# Altium footprint library Pinsockets.PcbLib: 12 footprints
Each footprint in its own frame and in the unit in brackets; x right, y up, seen from the top. Pads: shape width x height; smd on the part's side, far side on the other; paste and mask are expansions set on the pad; w line width, h text height; cw(c..) or ccw(c..) is an arc to the next point about the centre after c.
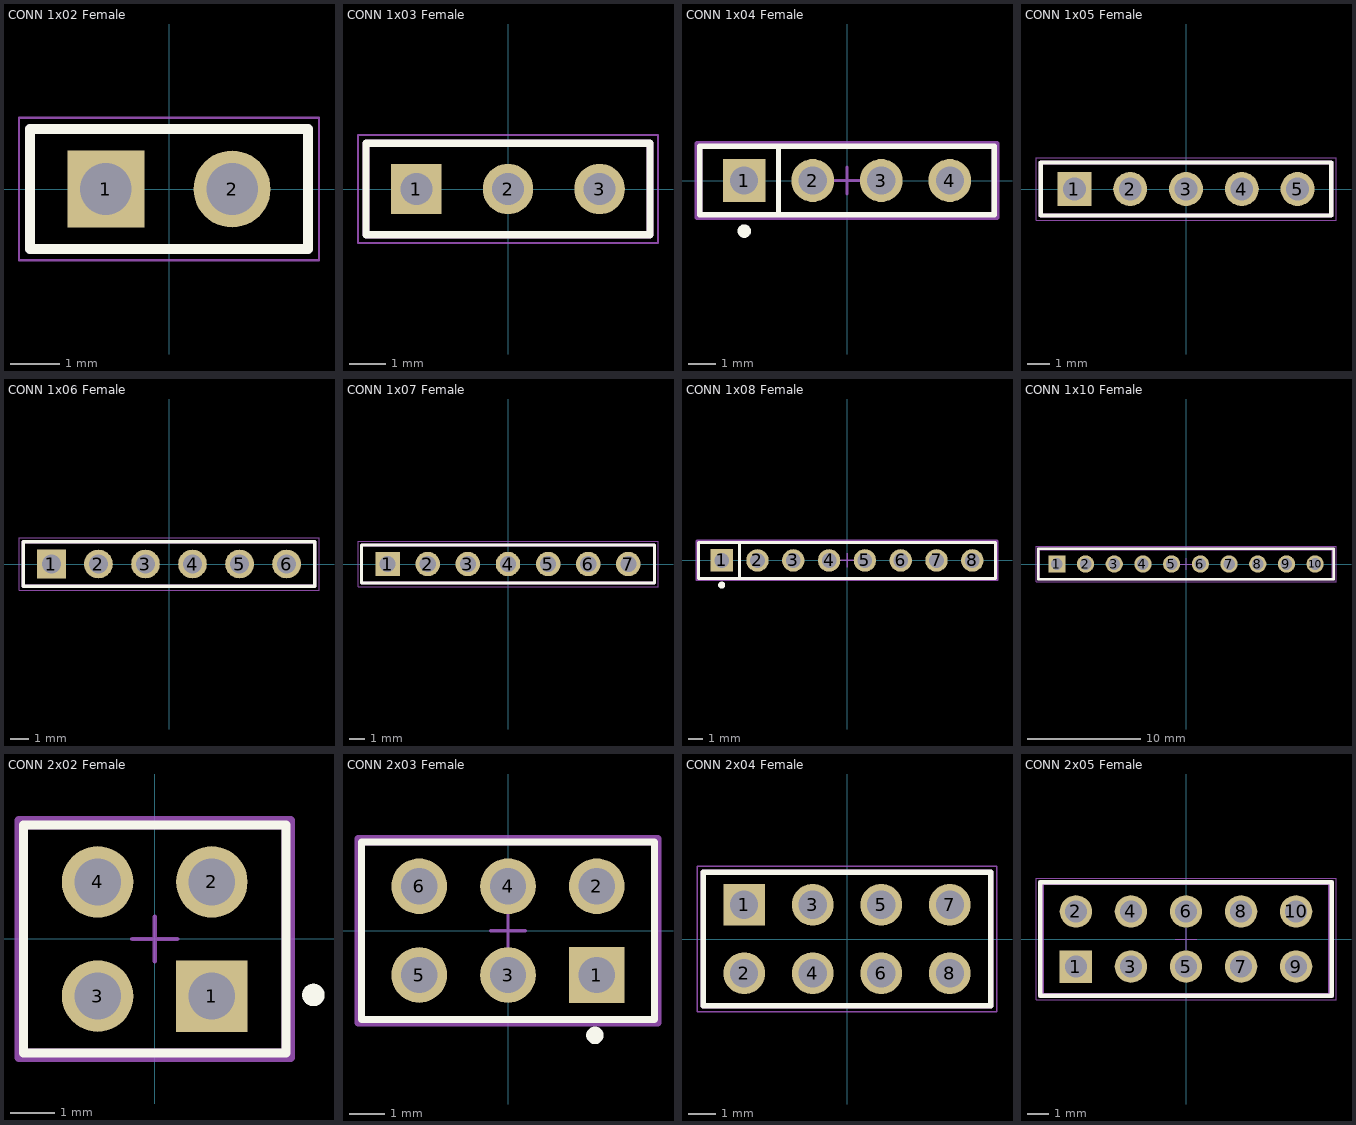
[diagram p0: the footprints below, top view; thin cyan lines are the x and y axes]

## CONN 1x02 Female [mm] "CONN RECEPTACLE FEMALE 2POS 2.54MM"
height 8.51
pads (2):
  rect 1.55x1.55 hole 1.04: 1(-1.27,0)
  round 1.55 hole 1.04: 2(1.27,0)
Top Overlay:
  lines w0.2: -2.795,-1.205 2.795,-1.205 2.795,1.205 -2.795,1.205 -2.795,-1.205
Top Assembly:
  lines w0.2: -2.795,-1.205 -2.795,1.205 2.795,1.205 2.795,-1.205 -2.795,-1.205
  text "'.Designator'" at -5.248,-0.825 h0.9
Top 3D Body:
  lines w0.1: -2.795,-1.205 2.795,-1.205 2.795,1.205 -2.795,1.205 -2.795,-1.205
Top Courtyard:
  lines w0.05: -3.02,-1.43 -3.02,1.43 3.02,1.43 3.02,-1.43 -3.02,-1.43
3D body "SSW-102-02-X-S.step": height 8.51, standoff -4.93, extent -2.794,-1.206 2.794,1.207

## CONN 1x03 Female [mm] "CONN RECEPTACLE FEMALE 3POS 2.54MM"
height 7.37
pads (3):
  rect 1.4x1.4 hole 0.89: 1(-2.54,0)
  round 1.4 hole 0.89: 2(0,0) 3(2.54,0)
Top Overlay:
  lines w0.2: -3.935,-1.27 3.935,-1.27 3.935,1.27 -3.935,1.27 -3.935,-1.27
Top Assembly:
  lines w0.2: -3.935,-1.27 3.935,-1.27 3.935,1.27 -3.935,1.27 -3.935,-1.27
  text "'.Designator'" at -5.248,-0.825 h0.9
Top 3D Body:
  lines w0.1: -3.935,-1.27 -3.935,1.27 3.935,1.27 3.935,-1.27 -3.935,-1.27
Top Courtyard:
  lines w0.05: -4.16,-1.495 -4.16,1.495 4.16,1.495 4.16,-1.495 -4.16,-1.495
3D body "BCS-103-X-S-TE.step": height 7.37, standoff -3.1, extent -3.81,-1.27 3.81,1.27

## CONN 1x04 Female [mm] "CONN RECEPTACLE FEMALE 4POS 2.54MM"
height 8.54
pads (4):
  rect 1.59x1.59 hole 1.04 paste-1000 mask+0: 1(-3.81,0)
  round 1.59 hole 1.04 paste-1000 mask+0: 2(-1.27,0) 3(1.27,0) 4(3.81,0)
Top Overlay:
  circle w0.25: c-3.81,-1.875 r0.125
  lines w0.2: -2.54,-1.27 -2.54,1.27 ; -5.46,-1.27 -5.46,1.27 5.46,1.27 5.46,-1.27 -5.46,-1.27
Top Assembly:
  lines w0.2: -5.56,-1.37 -5.56,1.37 5.56,1.37 5.56,-1.37 -5.56,-1.37
  text ".Designator" at -2.861,-0.287 h1.27
Top 3D Body:
  lines w0.2: -5.46,-1.27 -5.46,1.27 5.46,1.27 5.46,-1.27 -5.46,-1.27
Top Courtyard:
  lines w0.2: -5.56,-1.37 -5.56,1.37 5.56,1.37 5.56,-1.37 -5.56,-1.37
Bottom Courtyard:
  lines w0.1: -0.5,0 0.5,0 ; 0,-0.5 0,0.5
3D body "Conn_Samtec_SSW-104-01-G-S-003_eec.STEP": height 0.25, standoff 0, extent -5.56,-1.37 5.56,1.37

## CONN 1x05 Female [mm] "CONN RECEPTACLE FEMALE 5POS 2.54MM"
height 8.51
pads (5):
  rect 1.55x1.55 hole 1.04: 1(-5.08,0)
  round 1.55 hole 1.04: 2(-2.54,0) 3(0,0) 4(2.54,0) 5(5.08,0)
Top Overlay:
  lines w0.2: -6.605,-1.205 6.605,-1.205 6.605,1.205 -6.605,1.205 -6.605,-1.205
Top Assembly:
  lines w0.2: -6.605,-1.205 6.605,-1.205 6.605,1.205 -6.605,1.205 -6.605,-1.205
  text "'.Designator'" at -5.248,-0.825 h0.9
Top 3D Body:
  lines w0.1: -6.605,-1.205 6.605,-1.205 6.605,1.205 -6.605,1.205 -6.605,-1.205
Top Courtyard:
  lines w0.05: -6.83,-1.43 6.83,-1.43 6.83,1.43 -6.83,1.43 -6.83,-1.43
3D body "SSW-105-01-X-S.step": height 8.51, standoff -2.64, extent -6.604,-1.206 6.604,1.207

## CONN 1x06 Female [mm] "CONN RECEPTACLE FEMALE 6POS 2.54MM"
height 8.51
pads (6):
  rect 1.55x1.55 hole 1.04: 1(-6.35,0)
  round 1.55 hole 1.04: 2(-3.81,0) 3(-1.27,0) 4(1.27,0) 5(3.81,0) 6(6.35,0)
Top Overlay:
  lines w0.2: -7.875,-1.205 7.875,-1.205 7.875,1.205 -7.875,1.205 -7.875,-1.205
Top Assembly:
  lines w0.2: -7.875,-1.205 7.875,-1.205 7.875,1.205 -7.875,1.205 -7.875,-1.205
  text "'.Designator'" at -5.248,-0.825 h0.9
Top 3D Body:
  lines w0.1: -7.875,-1.205 7.875,-1.205 7.875,1.205 -7.875,1.205 -7.875,-1.205
Top Courtyard:
  lines w0.05: -8.1,-1.43 8.1,-1.43 8.1,1.43 -8.1,1.43 -8.1,-1.43
3D body "SSW-106-02-X-S.step": height 8.51, standoff -4.93, extent -7.874,-1.206 7.874,1.207

## CONN 1x07 Female [mm] "CONN RECEPTACLE FEMALE 7POS 2.54MM"
height 8.51
pads (7):
  rect 1.55x1.55 hole 1.02: 1(-7.62,0)
  round 1.55 hole 1.02: 2(-5.08,0) 3(-2.54,0) 4(0,0) 5(2.54,0) 6(5.08,0) 7(7.62,0)
Top Overlay:
  lines w0.2: -9.27,-1.205 -9.27,1.205 9.27,1.205 9.27,-1.205 -9.27,-1.205
Top Assembly:
  lines w0.2: -9.27,-1.205 -9.27,1.205 9.27,1.205 9.27,-1.205 -9.27,-1.205
  text "'.Designator'" at -5.248,-0.825 h0.9
Top 3D Body:
  lines w0.1: -9.27,-1.205 9.27,-1.205 9.27,1.205 -9.27,1.205 -9.27,-1.205
Top Courtyard:
  lines w0.05: -9.495,-1.43 9.495,-1.43 9.495,1.43 -9.495,1.43 -9.495,-1.43
3D body "SSQ-107-01-X-S.step": height 8.51, standoff -2.64, extent -9.144,-1.207 9.144,1.206

## CONN 1x08 Female [mm] "CONN RECEPTACLE FEMALE 8POS 2.54MM"
height 8.51
pads (8):
  rect 1.59x1.59 hole 1.04 paste-1000 mask+0: 1(-8.89,0)
  round 1.59 hole 1.04 paste-1000 mask+0: 2(-6.35,0) 3(-3.81,0) 4(-1.27,0) 5(1.27,0) 6(3.81,0) 7(6.35,0) 8(8.89,0)
Top Overlay:
  circle w0.25: c-8.89,-1.75 r0.125
  lines w0.2: -7.62,-1.27 -7.62,1.27 ; -10.54,-1.27 10.54,-1.27 10.54,1.27 -10.54,1.27 -10.54,-1.27
Top Assembly:
  lines w0.2: -10.64,-1.37 10.64,-1.37 10.64,1.37 -10.64,1.37 -10.64,-1.37
  text "'.Designator'" at -5.248,-0.825 h0.9
Top 3D Body:
  lines w0.2: -10.54,-1.27 10.54,-1.27 10.54,1.27 -10.54,1.27 -10.54,-1.27
Top Courtyard:
  lines w0.2: -10.64,-1.37 10.64,-1.37 10.64,1.37 -10.64,1.37 -10.64,-1.37
Bottom Courtyard:
  lines w0.1: -0.5,0 0.5,0 ; 0,-0.5 0,0.5
3D body "Conn_Samtec_SSW-108-01-G-S_eec.STEP": height 0.25, standoff 0, extent -10.64,-1.37 10.64,1.37

## CONN 1x10 Female [mm] "CONN RECEPTACLE FEMALE 10POS 2.54MM"
height 8.5
pads (10):
  rect 1.52x1.52 hole 1.02: 1(-11.43,0)
  round 1.52 hole 1.02: 2(-8.89,0) 3(-6.35,0) 4(-3.81,0) 5(-1.27,0) 6(1.27,0) 7(3.81,0) 8(6.35,0) 9(8.89,0) 10(11.43,0)
Top Overlay:
  lines w0.2: -13.075,-1.35 13.075,-1.35 13.075,1.35 -13.075,1.35 -13.075,-1.35
Top Assembly:
  lines w0.2: -13.075,-1.35 13.075,-1.35 13.075,1.35 -13.075,1.35 -13.075,-1.35
  text "'.Designator'" at -5.248,-0.825 h0.9
Top 3D Body:
  lines w0.1: -12.95,-1.25 12.95,-1.25 12.95,1.25 -12.95,1.25 -12.95,-1.25
Top Courtyard:
  lines w0.05: -0.5,0 0.5,0 ; 0,-0.5 0,0.5 ; -13.275,-1.55 13.275,-1.55 13.275,1.55 -13.275,1.55 -13.275,-1.55
3D body "61301011821.stp": height 8.55, standoff -3.06, extent -12.95,-1.25 12.95,1.25

## CONN 2x02 Female [mm] "CONN RECEPTACLE FEMALE 4POS 2.54MM"
height 8.51
pads (4):
  rect 1.59x1.59 hole 1.04 paste-1000 mask+0: 1(1.27,-1.27)
  round 1.59 hole 1.04 paste-1000 mask+0: 2(1.27,1.27) 3(-1.27,-1.27) 4(-1.27,1.27)
Top Overlay:
  circle w0.25: c3.53,-1.245 r0.125
  lines w0.2: -2.92,-2.54 2.92,-2.54 2.92,2.54 -2.92,2.54 -2.92,-2.54
Top Assembly:
  lines w0.2: -3.02,-2.64 3.02,-2.64 3.02,2.64 -3.02,2.64 -3.02,-2.64
  text "'.Designator'" at -5.248,-0.825 h0.9
Top 3D Body:
  lines w0.2: -2.92,-2.54 2.92,-2.54 2.92,2.54 -2.92,2.54 -2.92,-2.54
Top Courtyard:
  lines w0.2: -3.02,-2.64 3.02,-2.64 3.02,2.64 -3.02,2.64 -3.02,-2.64
Bottom Courtyard:
  lines w0.1: -0.5,0 0.5,0 ; 0,-0.5 0,0.5
3D body "Conn_Samtec_SSW-102-02-G-D_eec.STEP": height 0.25, standoff 0, extent -3.02,-2.64 3.02,2.64

## CONN 2x03 Female [mm] "CONN RECEPTACLE FEMALE 6POS 2.54MM"
height 8.51
pads (6):
  rect 1.59x1.59 hole 1.04 paste-1000 mask+0: 1(2.54,-1.27)
  round 1.59 hole 1.04 paste-1000 mask+0: 2(2.54,1.27) 3(0,-1.27) 4(0,1.27) 5(-2.54,-1.27) 6(-2.54,1.27)
Top Overlay:
  circle w0.25: c2.485,-2.995 r0.125
  lines w0.2: -4.19,-2.54 -4.19,2.54 4.19,2.54 4.19,-2.54 -4.19,-2.54
Top Assembly:
  lines w0.2: -4.29,-2.64 -4.29,2.64 4.29,2.64 4.29,-2.64 -4.29,-2.64
  text "'.Designator'" at -5.248,-0.825 h0.9
Top 3D Body:
  lines w0.2: -4.19,-2.54 -4.19,2.54 4.19,2.54 4.19,-2.54 -4.19,-2.54
Top Courtyard:
  lines w0.2: -4.29,-2.64 -4.29,2.64 4.29,2.64 4.29,-2.64 -4.29,-2.64
Bottom Courtyard:
  lines w0.1: -0.5,0 0.5,0 ; 0,-0.5 0,0.5
3D body "Conn_SAMTEC_SSW-103-02-G-D_eec.STEP": height 0.25, standoff 0, extent -4.29,-2.64 4.29,2.64

## CONN 2x04 Female [mm] "CONN RECEPTACLE FEMALE 8POS 2.54MM"
height 8.51
pads (8):
  rect 1.55x1.55 hole 1.04: 1(-3.81,1.27)
  round 1.55 hole 1.04: 2(-3.81,-1.27) 3(-1.27,1.27) 4(-1.27,-1.27) 5(1.27,1.27) 6(1.27,-1.27) 7(3.81,1.27) 8(3.81,-1.27)
Top Overlay:
  lines w0.2: -5.335,-2.475 5.335,-2.475 5.335,2.475 -5.335,2.475 -5.335,-2.475
Top Assembly:
  lines w0.2: -5.335,-2.475 5.335,-2.475 5.335,2.475 -5.335,2.475 -5.335,-2.475
  text "'.Designator'" at -5.248,-0.825 h0.9
Top 3D Body:
  lines w0.1: -5.335,-2.475 5.335,-2.475 5.335,2.475 -5.335,2.475 -5.335,-2.475
Top Courtyard:
  lines w0.05: -5.56,-2.7 5.56,-2.7 5.56,2.7 -5.56,2.7 -5.56,-2.7
3D body "SSW-104-01-X-D.step": height 8.51, standoff -2.64, extent -5.334,-2.476 5.334,2.477

## CONN 2x05 Female [mm] "CONN RECEPTACLE FEMALE 10POS 2.54MM"
height 8.4
pads (10):
  rect 1.5x1.5 hole 1.02: 1(-5.08,-1.27)
  round 1.5 hole 1.02: 2(-5.08,1.27) 3(-2.54,-1.27) 4(-2.54,1.27) 5(0,-1.27) 6(0,1.27) 7(2.54,-1.27) 8(2.54,1.27) 9(5.08,-1.27) 10(5.08,1.27)
Top Overlay:
  lines w0.2: -6.725,-2.615 -6.725,2.615 6.725,2.615 6.725,-2.615 -6.725,-2.615
Top Assembly:
  lines w0.2: -6.725,-2.615 -6.725,2.615 6.725,2.615 6.725,-2.615 -6.725,-2.615
  text "'.Designator'" at -5.248,-0.825 h0.9
Top 3D Body:
  lines w0.1: -6.6,-2.54 6.6,-2.54 6.6,2.54 -6.6,2.54 -6.6,-2.54
Top Courtyard:
  lines w0.05: -0.5,0 0.5,0 ; 0,-0.5 0,0.5 ; -6.925,-2.815 6.925,-2.815 6.925,2.815 -6.925,2.815 -6.925,-2.815
3D body "61301021821.stp": height 8.45, standoff -3.05, extent -6.6,-2.54 6.6,2.54